# Altium footprint library POL-12208.PcbLib: 1 footprints
Each footprint in its own frame and in the unit in brackets; x right, y up, seen from the top. Pads: shape width x height; smd on the part's side, far side on the other; paste and mask are expansions set on the pad; w line width, h text height; cw(c..) or ccw(c..) is an arc to the next point about the centre after c.
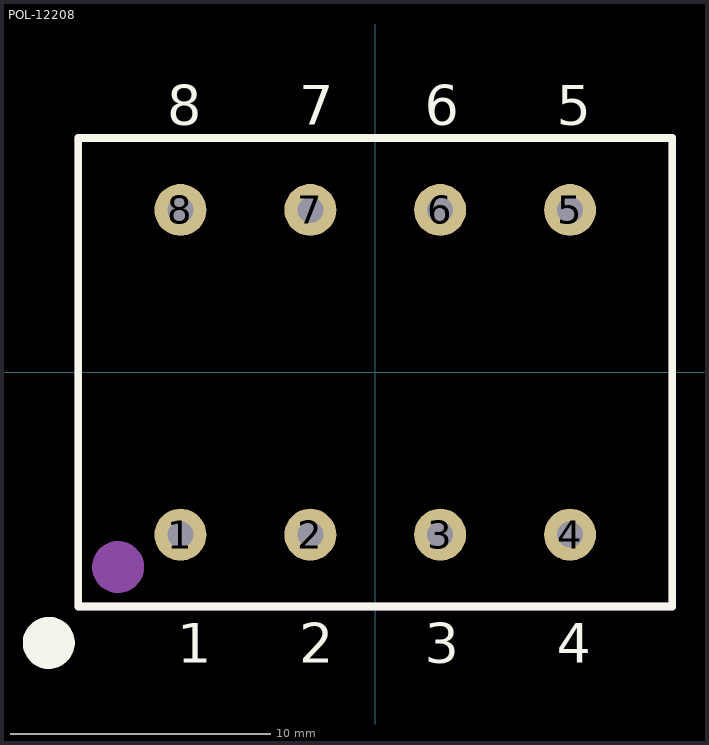
[diagram p0: the footprint, top view; thin cyan lines are the x and y axes]

## POL-12208 [mm]
pads (8):
  round 2 hole 1: 1(-7.5,-6.25) 2(-2.5,-6.25) 3(2.5,-6.25) 4(7.5,-6.25) 5(7.5,6.25) 6(2.5,6.25) 7(-2.5,6.25) 8(-7.5,6.25)
Top Overlay:
  circle w1: c-12.565,-10.414 r0.5
  lines w0.3: -11.43,-9.017 -11.43,9.017 11.43,9.017 11.43,-9.017 -11.43,-9.017
  text "8" at -8.001,9.525 h1.52
  text "7" at -2.921,9.525 h1.52
  text "6" at 1.905,9.525 h1.52
  text "5" at 6.985,9.525 h1.52
  text "4" at 6.985,-11.176 h1.52
  text "3" at 1.905,-11.176 h1.52
  text "2" at -2.921,-11.176 h1.52
  text "1" at -7.62,-11.176 h1.52
Mechanical 13:
  circle w1: c-9.898,-7.493 r0.5
  lines w0.3: -11.43,-9.017 -11.43,9.017 11.43,9.017 11.43,-9.017 -11.43,-9.017
  text ".Designator" at -2.6,-3.98 h2.5
3D body: height 21, standoff -4, extent -11.5,-9 11.5,9